# Altium footprint library MyLibrary.PcbLib: 365 footprints (part 4 of 23)
Each footprint in its own frame and in the unit in brackets; x right, y up, seen from the top. Pads: shape width x height; smd on the part's side, far side on the other; paste and mask are expansions set on the pad; w line width, h text height; cw(c..) or ccw(c..) is an arc to the next point about the centre after c.
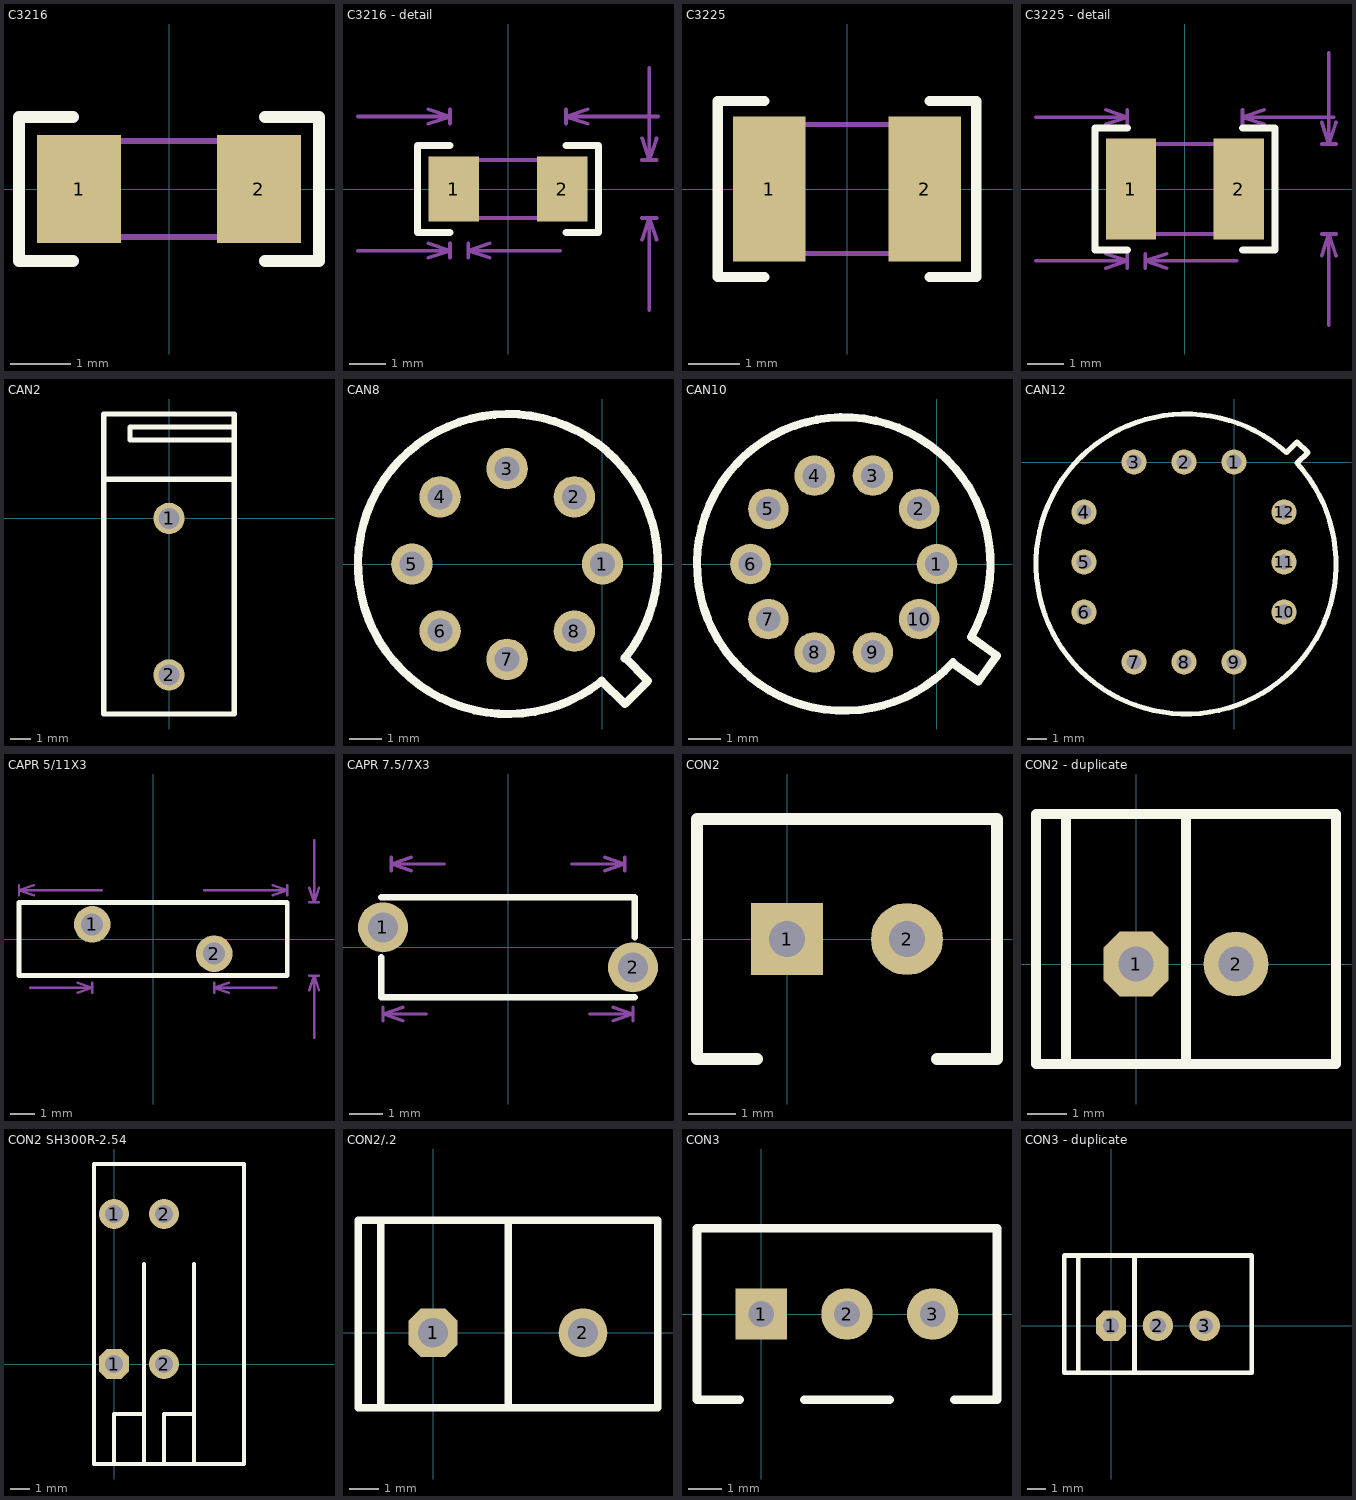
[diagram p3: the footprints below, top view; thin cyan lines are the x and y axes]

## C3216 [mm]
pads (2):
  rect 1.4x1.8 smd: 1(-1.5,0) 2(1.5,0)
Top Overlay:
  lines w0.2: -1.6,-1.2 -2.5,-1.2 -2.5,1.2 -1.6,1.2 ; 1.6,-1.2 2.5,-1.2 2.5,1.2 1.6,1.2
Mechanical 1:
  lines w0.1: -1.1,-0.8 -1.1,0.8 ; 1.1,-0.8 1.1,0.8 ; -1.6,-0.8 -1.6,0.8 1.6,0.8 1.6,-0.8 -1.6,-0.8

## C3216 - detail [mm]
pads (2):
  rect 1.4x1.8 smd: 1(-1.5,0) 2(1.5,0)
Top Overlay:
  lines w0.2: -1.6,-1.2 -2.5,-1.2 -2.5,1.2 -1.6,1.2 ; 1.6,-1.2 2.5,-1.2 2.5,1.2 1.6,1.2
Mechanical 1:
  lines w0.1: -4.14,-1.7 -1.6,-1.7 ; -4.14,2 -1.6,2 ; -2.2,-1.9 -1.6,-1.7 ; -2.2,-1.5 -1.6,-1.7 ; -2.2,1.8 -1.6,2 ; -2.2,2.2 -1.6,2 ; -1.6,-1.9 -1.6,-1.5 ; -1.6,1.8 -1.6,2.2 ; -1.1,-1.9 -1.1,-1.5 ; -1.1,-0.8 -1.1,0.8 ; -0.5,-1.9 -1.1,-1.7 ; -0.5,-1.5 -1.1,-1.7 ; 1.1,-0.8 1.1,0.8 ; 1.44,-1.7 -1.1,-1.7 ; 1.6,1.8 1.6,2.2 ; 2.2,1.8 1.6,2 ; 2.2,2.2 1.6,2 ; 3.7,-1.4 3.9,-0.8 ; 3.7,-0.8 4.1,-0.8 ; 3.7,0.8 4.1,0.8 ; 3.7,1.4 3.9,0.8 ; 3.9,-3.34 3.9,-0.8 ; 3.9,3.34 3.9,0.8 ; 4.1,-1.4 3.9,-0.8 ; 4.1,1.4 3.9,0.8 ; 4.14,2 1.6,2 ; -1.6,-0.8 1.6,-0.8 1.6,0.8 -1.6,0.8 -1.6,-0.8
  text "3.2 (mm)" at -2,2.4 h0.6
  text "1.6 (mm)" at 4.9,-2.1 h0.6
  text "0.5 (mm)" at -4,-2.7 h0.6

## C3225 [mm]
pads (2):
  rect 1.4x2.8 smd: 1(-1.5,0) 2(1.5,0)
Top Overlay:
  lines w0.2: -1.6,-1.7 -2.5,-1.7 -2.5,1.7 -1.6,1.7 ; 1.6,-1.7 2.5,-1.7 2.5,1.7 1.6,1.7
Mechanical 1:
  lines w0.1: -1.1,-1.25 -1.1,1.25 ; 1.1,-1.25 1.1,1.25 ; -1.6,-1.25 1.6,-1.25 1.6,1.25 -1.6,1.25 -1.6,-1.25

## C3225 - detail [mm]
pads (2):
  rect 1.4x2.8 smd: 1(-1.5,0) 2(1.5,0)
Top Overlay:
  lines w0.2: -1.6,-1.7 -2.5,-1.7 -2.5,1.7 -1.6,1.7 ; 1.6,-1.7 2.5,-1.7 2.5,1.7 1.6,1.7
Mechanical 1:
  lines w0.1: -4.14,-2 -1.6,-2 ; -4.14,2 -1.6,2 ; -2.2,-2.2 -1.6,-2 ; -2.2,-1.8 -1.6,-2 ; -2.2,1.8 -1.6,2 ; -2.2,2.2 -1.6,2 ; -1.6,-2.2 -1.6,-1.8 ; -1.6,1.8 -1.6,2.2 ; -1.1,-2.2 -1.1,-1.8 ; -1.1,-1.25 -1.1,1.25 ; -0.5,-2.2 -1.1,-2 ; -0.5,-1.8 -1.1,-2 ; 1.1,-1.25 1.1,1.25 ; 1.44,-2 -1.1,-2 ; 1.6,1.8 1.6,2.2 ; 2.2,1.8 1.6,2 ; 2.2,2.2 1.6,2 ; 3.8,-1.85 4,-1.25 ; 3.8,-1.25 4.2,-1.25 ; 3.8,1.25 4.2,1.25 ; 3.8,1.85 4,1.25 ; 4,-3.79 4,-1.25 ; 4,3.79 4,1.25 ; 4.14,2 1.6,2 ; 4.2,-1.85 4,-1.25 ; 4.2,1.85 4,1.25 ; -1.6,-1.25 1.6,-1.25 1.6,1.25 -1.6,1.25 -1.6,-1.25
  text "3.2 (mm)" at -2,2.4 h0.6
  text "2.5 (mm)" at 5,-2.2 h0.6
  text "0.5 (mm)" at -3.8,-3 h0.6

## CAN2 [mil]
pads (2):
  round 60 hole 40: 1(0,0) 2(0,-300)
Top Overlay:
  lines w10: -125,75 125,75 ; 125,150 -75,150 -75,175 125,175 ; -125,-375 -125,200 125,200 125,-375 -125,-375

## CAN8 [mil]
pads (8):
  round 50 hole 30: 1(0,0) 2(-34,81) 3(-115,115) 4(-196,81) 5(-230,0) 6(-196,-81) 7(-115,-115) 8(-34,-81)
Top Overlay:
  lines w10: -2.57,-142.63 cw(c-114,0) 26.66,-113.91 ; -1,-141 27,-169 55,-141 27,-113

## CAN10 [mil]
pads (10):
  round 50 hole 30: 1(0,0) 2(-22,68) 3(-79,109) 4(-151,109) 5(-208,68) 6(-230,0) 7(-208,-68) 8(-151,-109) 9(-79,-109) 10(-22,-68)
Top Overlay:
  lines w10: 19,-122 51,-145 74,-113 42,-90 ; 19.51,-121.11 cw(c-115,0) 43.31,-87.75

## CAN12 [mil]
pads (12):
  round 50 hole 30: 1(0,0) 2(-100,0) 3(-200,0) 4(-300,-100) 5(-300,-200) 6(-300,-300) 7(-200,-400) 8(-100,-400) 9(0,-400) 10(100,-300) 11(100,-200) 12(100,-100)
Top Overlay:
  lines w10: 104.74,18.94 ccw(c-96,-204) 126.94,-3.26 ; 105,19 126,40 148,19 126,-2

## CAPR 5/11X3 [mm]
pads (2):
  round 1.5 hole 0.9: 1(-2.5,0.6) 2(2.5,-0.6)
Top Overlay:
  lines w0.2: -5.5,-1.5 -5.5,1.5 5.5,1.5 5.5,-1.5 -5.5,-1.5
Mechanical 1:
  lines w0.1: -5.5,1.8 -5.5,2.2 ; -5.04,-2 -2.5,-2 ; -4.9,1.8 -5.5,2 ; -4.9,2.2 -5.5,2 ; -3.1,-2.2 -2.5,-2 ; -3.1,-1.8 -2.5,-2 ; -2.5,-2.2 -2.5,-1.8 ; -2.103,2 -5.5,2 ; 2.103,2 5.5,2 ; 2.5,-2.2 2.5,-1.8 ; 3.1,-2.2 2.5,-2 ; 3.1,-1.8 2.5,-2 ; 4.9,1.8 5.5,2 ; 4.9,2.2 5.5,2 ; 5.04,-2 2.5,-2 ; 5.5,1.8 5.5,2.2 ; 6.4,-2.1 6.6,-1.5 ; 6.4,-1.5 6.8,-1.5 ; 6.4,1.5 6.8,1.5 ; 6.4,2.1 6.6,1.5 ; 6.6,-4.04 6.6,-1.5 ; 6.6,4.04 6.6,1.5 ; 6.8,-2.1 6.6,-1.5 ; 6.8,2.1 6.6,1.5
  text "3 (mm)" at 8.2,-1.649 h0.6
  text "11 (mm)" at -1.8,1.8 h0.6
  text "5 (mm)" at -1.6,-2.4 h0.6

## CAPR 7.5/7X3 [mm]
pads (2):
  round 1.5 hole 0.9: 1(-3.75,0.6) 2(3.75,-0.6)
Top Overlay:
  lines w0.2: -3.8,-0.3 -3.8,-1.5 3.8,-1.5 ; -3.8,1.5 3.8,1.5 3.8,0.3
Mechanical 1:
  lines w0.1: -3.75,-2.2 -3.75,-1.8 ; -3.5,2.3 -3.5,2.7 ; -3.15,-2.2 -3.75,-2 ; -3.15,-1.8 -3.75,-2 ; -2.9,2.3 -3.5,2.5 ; -2.9,2.7 -3.5,2.5 ; -2.453,-2 -3.75,-2 ; -1.903,2.5 -3.5,2.5 ; 1.903,2.5 3.5,2.5 ; 2.453,-2 3.75,-2 ; 2.9,2.3 3.5,2.5 ; 2.9,2.7 3.5,2.5 ; 3.15,-2.2 3.75,-2 ; 3.15,-1.8 3.75,-2 ; 3.5,2.3 3.5,2.7 ; 3.75,-2.2 3.75,-1.8
  text "7 (mm)" at -1.649,2.1 h0.6
  text "7.5 (mm)" at -2.199,-2.4 h0.6

## CON2 [mil]
pads (2):
  rect 60x60 hole 30: 1(0,0)
  round 60 hole 30: 2(100,0)
Top Overlay:
  lines w10: -25,-100 -75,-100 -75,100 175,100 175,-100 125,-100

## CON2 - duplicate [mil]
pads (2):
  oct 65x65 hole 35: 1(0,0)
  round 65 hole 35: 2(100,0)
Top Overlay:
  lines w10: -70,-100 -70,150 ; 50,-100 50,150 ; -100,-100 -100,150 200,150 200,-100 -100,-100

## CON2 SH300R-2.54 [mil]
pads (4):
  oct 60x60 hole 35.43: 1(0,0)
  round 60 hole 35.43: 1(0,300) 2(100,0) 2(100,300)
Top Overlay:
  lines w8: 0,-200 0,-100 60,-100 ; 60,-200 60,200 ; 100,-200 100,-100 160,-100 ; 160,-200 160,200 ; -40,-200 260,-200 260,400 -40,400 -40,-200

## CON2/.2 [mil]
pads (2):
  oct 65x65 hole 39.37: 1(0,0)
  round 65 hole 39.37: 2(200,0)
Top Overlay:
  lines w10: -70,-100 -70,150 ; 100,-100 100,150 ; -100,-100 -100,150 300,150 300,-100 -100,-100

## CON3 [mil]
pads (3):
  rect 60x60 hole 30: 1(0,0)
  round 60 hole 30: 2(100,0) 3(200,0)
Top Overlay:
  lines w10: -25,-100 -75,-100 -75,100 275,100 275,-100 225,-100 ; 50,-100 150,-100

## CON3 - duplicate [mil]
pads (3):
  oct 65x65 hole 35: 1(0,0)
  round 65 hole 35: 2(100,0) 3(200,0)
Top Overlay:
  lines w10: -70,-100 -70,150 ; 50,-100 50,150 ; -100,-100 300,-100 300,150 -100,150 -100,-100